# Altium schematic symbol library ESD_Protection.SchLib: 7 symbols
Pins are listed as number, name and electrical type; pins without a type are passive.

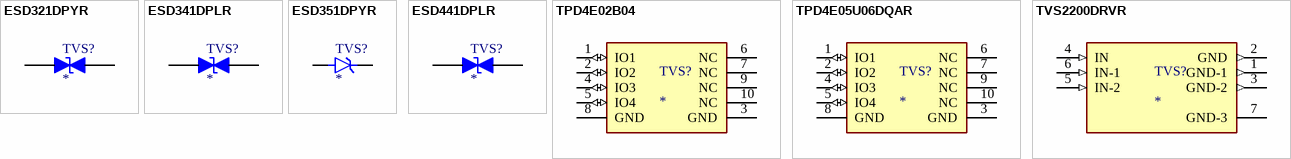
[diagram p0: symbols ESD321DPYR to TVS2200DRVR]

## ESD321DPYR
designator TVS?
0.9pF 3.6V ±30kV ESD protection diode with 6.8V 16A TLP clamping for USB 2.0; ComponentLink1Description: New link; ComponentLink1URL: https://www.tme.eu/pl/details/esd321dpyr/diody-tvs-smd-jednokierunkowe/texas-instruments/
footprint ESD321DPYR
pins: 1, 2

## ESD341DPLR
designator TVS?
0.18-pF, ±3.6-V, ±15-kV ESD protection diode in 0402 & 0201 packages for USB-C; ComponentLink1Description: New link; ComponentLink1URL: https://www.mouser.pl/ProductDetail/Texas-Instruments/ESD341DPLR?qs=vvQtp7zwQdPZsQmhxrnBcw%3D%3D
footprint ESD341DPLR (ESD Protection Diodes / TVS Diodes 0.66-pF +/-3.6-V +/- 30-kV ESD protectio)
pins: 1, 2

## ESD351DPYR
designator TVS?
1.8-pF, 3.3V, ±30-kV ESD protection diode with 6.5-V, 16-A TLP clamping in 0402 package for USB 2.0; ComponentLink1Description: New link; ComponentLink1URL: https://www.mouser.pl/ProductDetail/Texas-Instruments/ESD351DPYR?qs=w%2Fv1CP2dgqqeRo4Km2by%252BQ%3D%3D
footprint ESD351DPYR (ESD Protection Diodes / TVS Diodes 1.8-pF 3.3V +/-30- k V ESD protection di)
pins: 1 K (io), 2 A (power)

## ESD441DPLR
designator TVS?
1-pF, 5.5-V, 30-KV ESD protection device in 0201 package; ComponentLink1Description: New link; ComponentLink1URL: https://www.mouser.pl/ProductDetail/Texas-Instruments/ESD441DPLR?qs=1Kr7Jg1SGW9UQFJqGMkN7Q%3D%3D
footprint ESD441DPLR (1-pF, 5.5-V, 30-KV ESD protection device in 0201 package)
pins: 1, 2

## TPD4E02B04
designator TVS?
ComponentLink1Description: New link; ComponentLink1URL: https://www.mouser.pl/ProductDetail/Texas-Instruments/TPD4E02B04DQAR?qs=8%2FmU9qzJpL%2FFVYtHO1iV9g%3D%3D
footprint TPD4E02B04
pins: 1 IO1 (io), 2 IO2 (io), 3 GND (power), 4 IO3 (io), 5 IO4 (io), 6 NC, 7 NC, 8 GND (power), 9 NC, 10 NC

## TPD4E05U06DQAR
designator TVS?
ESD Protection Diodes / TVS Diodes 0.66-pF +/-3.6-V +/- 30-kV ESD protectio; ComponentLink1Description: New link; ComponentLink1URL: https://www.mouser.pl/ProductDetail/Texas-Instruments/TPD4E05U06DQAR?qs=%2FCrDlo5IrVPi4woOvWz0qA%3D%3D
footprint TPD4E05U06DQAR (Quad 0.5-pF, 5.5-V, ±12-kV ESD protection diode for USB, HDMI & High Speed Interfaces)
pins: 1 IO1 (io), 2 IO2 (io), 3 GND (power), 4 IO3 (io), 5 IO4 (io), 6 NC, 7 NC, 8 GND (power), 9 NC, 10 NC

## TVS2200DRVR
designator TVS?
22V flat-clamp surge protection device; ComponentLink1Description: New link; ComponentLink1URL: https://www.mouser.pl/ProductDetail/Texas-Instruments/TVS2200DRVR?qs=W0yvOO0ixfHPbvei2cYdIw%3D%3D
footprint TVS2200DRVR
pins: 1 GND-1 (out), 2 GND (out), 3 GND-2 (out), 4 IN (in), 5 IN-2 (in), 6 IN-1 (in), 7 GND-3 (power)